# Altium integrated library iotaCore.IntLib: 17 symbols
Pins are listed as number, name and electrical type; pins without a type are passive.

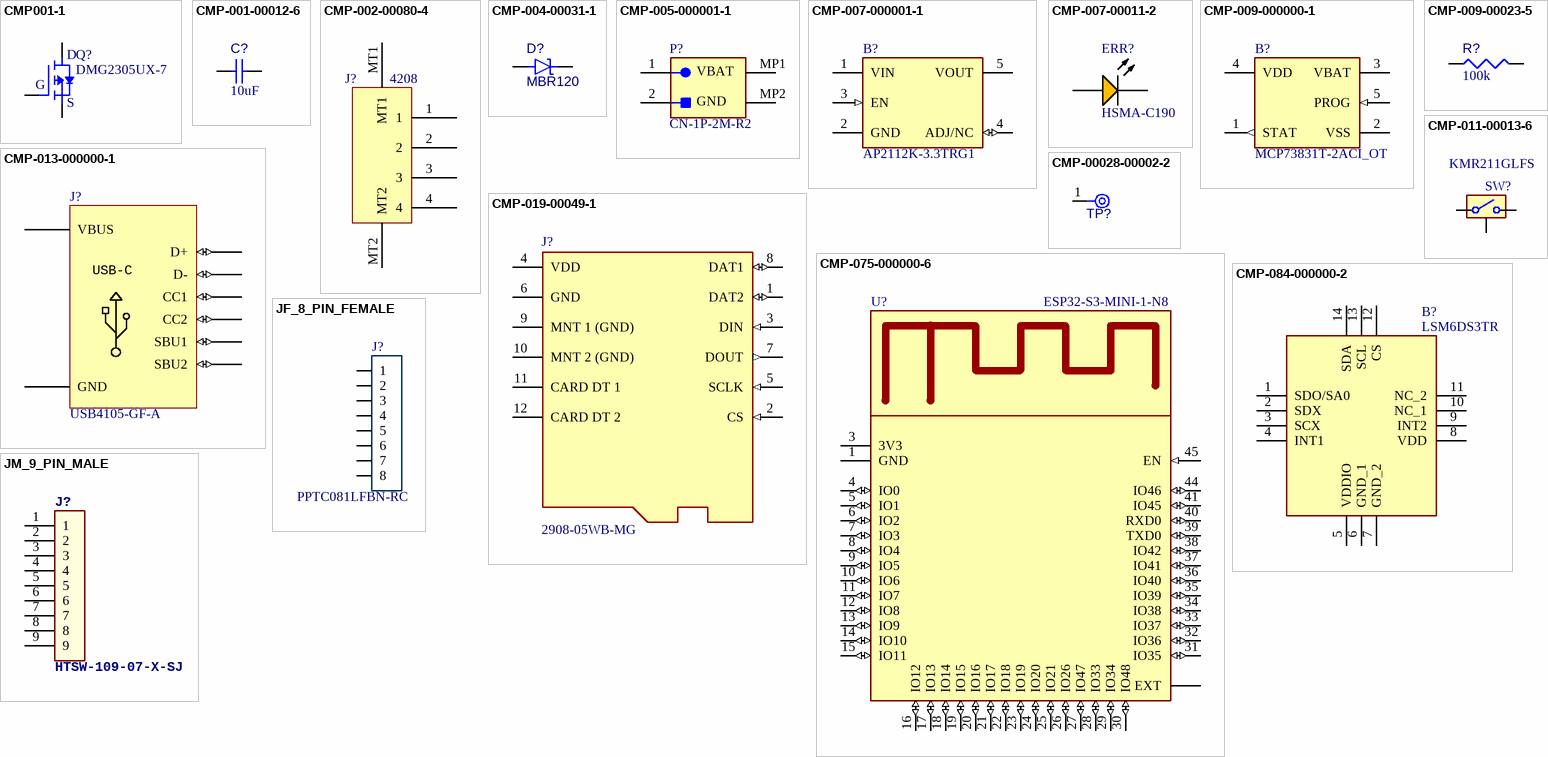
[diagram p0: symbols CMP001-1 to JM_9_PIN_MALE]

## CMP001-1
designator Q?, comment DMG2305UX-7
Power Field-Effect Transistor, 4.2A I(D), 20V, 0.052ohm, 1-Element, P-Channel, Silicon, Metal-oxide Semiconductor FET; Manufacturer: Diodes; Max Operating Temperature: 150°C; RoHS Compliant: Yes; Pins: 3; Manufacturer Part Number: DMG2305UX-7; Component Type: Transistors
footprint FP-SOT23-MFG
pins: 1 G, 2 S, 3 D

## CMP-001-00012-6
designator C?, comment value 10uF  (hidden comment: Capacitor 10 uF +/- 0.25 uF 50 V 0603)
Chip Capacitor, 10 uF, +/- 0.25 uF, 50 V, 0603 (1608 Metric); Manufacturer: KEMET; Manufacturer Part Number: C0603C100C5GACTU; Tolerance: 0.25%; Capacitor Type: Ceramic; Voltage Rating: 50V; Max Operating Temperature: 125°C; RoHS Compliant: True; Mounting Technology: SM; Pins: 2; Case/Package: 0603; Min Operating Temperature: -55°C; Component Type: Capacitors
footprint CAPC1608X87X35NL15T15 (Chip Capacitor, 2-Leads, Body 1.75x0.95mm, IPC Medium Density)
footprint CAPC1608X87X35LL15T15 (Chip Capacitor, 2-Leads, Body 1.75x0.95mm, IPC High Density)
footprint CAPC1608X87X35ML15T15 (Chip Capacitor, 2-Leads, Body 1.75x0.95mm, IPC Low Density)
pins: 1, 2

## CMP-002-00080-4
designator J?, comment 4208
Adafruit Accessories JST SH 4-pin Right Angle Connector (10-pack) - Qwiic Compatible; Manufacturer_Part_Number: 4208; Source: SamacSys.SchLib; Height: 7.05mm; Design Item ID: 4208; Manufacturer_Name: Adafruit; Datasheet Link: https://cdn-shop.adafruit.com/product-files/4390/4390_C13925-001_CCP-W20-04-BK-SMT-R-A.PDF; Component Type: Connectors
footprint 4390
pins: 1, 2, 3, 4, MT1, MT2

## CMP-004-00031-1
designator D?, comment MBR120
Diode; Source: MBR120.SchLib; Design Item ID: MBR120; Component Type: Diodes
footprint ONSC-SOD-123FL-2-498-01_V (SOD, 2-Leads, Body 2.7x1.65mm)
pins: 1 K, 2 A

## CMP-005-000001-1
designator P?, comment CN-1P-2M-R2
Design Item ID: CN-1P-2M-R2; Source: CN-1P-2M-R2.SchLib
footprint JST- S2B-PH-SM4-TB(LF)(SN)-2_V (SMD, 2-Leads, Body 7.9x7.6mm, Pitch 2mm)
pins: 1, 2, MP1, MP2
text: VBAT; GND

## CMP-007-000001-1
designator B?, comment AP2112K-3.3TRG1
600mA 3.3V LDO Regulator Enable SOT23-5 DiodesZetex AP2112K-3.3TRG1, LDO Voltage Regulator, 3.3 V +/-1.5%, 2.5  6 Vin, 5-Pin SOT-23; Manufacturer_Name: Diodes Inc.; Geometry.Height: 1.3mm; Mouser Part Number: 621-AP2112K-3.3TRG1; Source: AP2112K-3.3TRG1.SchLib; Datasheet Link: *; Manufacturer_Part_Number: AP2112K-3.3TRG1; Mouser Price/Stock: https://www.mouser.co.uk/ProductDetail/Diodes-Incorporated/AP2112K-3.3TRG1?qs=x6A8l6qLYDDPYHosCdzh%2FA%3D%3D; Design Item ID: AP2112K-3.3TRG1
footprint SOT95P270X145-5N
pins: 1 VIN, 2 GND, 3 EN (in), 4 ADJ/NC (io), 5 VOUT

## CMP-007-00011-2
designator ERR?, comment HSMA-C190
LED Uni-Color Amber, 60 mW, 20 mA, -40 to 85 degC, 2-Pin SMD, RoHS, Tape and Reel; Manufacturer: Avago; Manufacturer: Broadcom Avago; Manufacturer: Agilent; Forward Current: 20mA; Luminous Intensity: 90mcd; Lens Style: Diffused; Power: 60mW; Nominal Vf: 1.9V; Viewing Angle: 170degrees; Illumination Colour: Orange; Datasheet Version: Sep-10; Mounting Technology: SM; Case/Package: 0603; RoHS Compliant: True; Pins: 2; Packaging: TapeandReel; Colour: Orange; Package Reference: HSMX-C190; Manufacturer URL: http://www.avagotech.com/; Package Quantity: 4000; Min Operating Temperature: -40°C; Datasheet URL: http://docs.avagotech.com/docs/AV02-0112EN; Max Operating Temperature: 85°C; Forward Voltage: 1.9V; Package Description: 2-Pin Surface Mount Device, Body 1.6 x 0.8 mm, Height 0.9 mm; Manufacturer Part Number: HSMA-C190; Component Type: LED
footprint AVAG-HSMX-C190_V (SMD, 2-Leads, Body 1.6x0.8mm, Height 0.9mm)
pins: 1 A, 2 K

## CMP-009-000000-1
designator B?, comment MCP73831T-2ACI_OT
Li-Ion Charge Controller 4.2V SOT23-5; Manufacturer_Name: Microchip; Manufacturer_Part_Number: MCP73831T-2ACI/OT; Geometry.Height: 1.45mm; Design Item ID: MCP73831T-2ACI_OT; Mouser Part Number: 579-MCP73831T-2ACIOT; Datasheet Link: http://ww1.microchip.com/downloads/en/DeviceDoc/20001984g.pdf; Source: MCP73831T-2ACI_OT.SchLib; Mouser Price/Stock: https://www.mouser.co.uk/ProductDetail/Microchip-Technology-Atmel/MCP73831T-2ACI-OT?qs=yUQqVecv4qvbBQBGbHx0Mw%3D%3D
footprint SOT95P270X145-5N
pins: 1 STAT (out), 2 VSS, 3 VBAT, 4 VDD, 5 PROG (in)

## CMP-009-00023-5
designator R?, comment value 100k  (hidden comment: Resistor 100k +/-1% 0603 100 mW)
Chip Resistor, 100 KOhm, +/- 1%, 0.1 W, -55 to 155 degC, 0603 (1608 Metric); Manufacturer: Yageo; Manufacturer Part Number: RC0603FR-07100KL; Manufacturer: Vishay; Manufacturer Part Number: CRCW0603-100KFKEA; Manufacturer Part Number: RC0603FR-13100KL; Manufacturer: Panasonic; Manufacturer Part Number: ERJ-3EKF1003V; Voltage Rating: 50V; Power: 100mW; Max Operating Temperature: 155°C; RoHS Compliant: True; Tolerance: 1%; Pins: 2; Case/Package: 0603; Mounting Technology: SM; Min Operating Temperature: -55°C; Component Type: Resistors
footprint RESC1608X55X25ML10T15 (Chip Resistor, 2-Leads, Body 1.70x0.90mm, IPC Low Density)
footprint RESC1608X55X25NL10T15 (Chip Resistor, 2-Leads, Body 1.70x0.90mm, IPC Medium Density)
footprint RESC1608X55X25LL10T15 (Chip Resistor, 2-Leads, Body 1.70x0.90mm, IPC High Density)
pins: 1, 2
1 alternate drawing of the same symbol

## CMP-011-00013-6
designator SW?, comment KMR211GLFS
Design Item ID: KMR211GLFS; Source: KMR211GLFS.SchLib; Component Type: Switches
footprint FP-KMR211GLFS-MFG
pins: 1,2 1, 3,4 2, 5 3 (power)

## CMP-013-000000-1
designator J?, comment USB4105-GF-A
USB-C 16-Pin Component; Source: USB4105-GF-A.SchLib; Design Item ID: USB4105-GF-A
footprint USB4105-GF-A
pins: A1B12,B1A12,M1,M2,M3,M4 GND, A4B9,B4A9 VBUS, A5 CC1 (io), A6,B6 D+ (io), A7,B7 D- (io), A8 SBU1 (io), B5 CC2 (io), B8 SBU2 (io)
text: USB-C

## CMP-019-00049-1
designator J?, comment 2908-05WB-MG
CONN MICRO SD CARD PUSH-PUSH R/A; Manufacturer: 3M; Manufacturer Part Number: 2908-05WB-MG; Component Type: Memory
footprint FP-2908-05WB-MG-MFG
pins: 1 DAT2 (io), 2 CS (in), 3 DIN (in), 4 VDD, 5 SCLK (in), 6 GND, 7 DOUT (out), 8 DAT1 (io), 9 MNT 1 (GND), 10 MNT 2 (GND), 11 CARD DT 1, 12 CARD DT 2

## CMP-00028-00002-2
designator TP?, comment TPAD6R  (value not drawn)  (no BOM)
0.6mm round; Pins: 1; Component Type: Mechanical
footprint TP06R (Testpoint, round, d=0.6mm)
pins: 1 TP

## CMP-075-000000-6
designator U?, comment ESP32-S3-MINI-1-N8
Bluetooth, WiFi 802.11b/g/n, Bluetooth v5.0 Transceiver Module 2.4GHz PCB Trace Surface Mount; MF: Espressif Systems; Availability: In Stock; Price: None; MP: ESP32-S3-MINI-1-N8; Design Item ID: ESP32-S3-MINI-1-N8; Purchase-URL: https://pricing.snapeda.com/search?q=ESP32-S3-MINI-1-N8&ref=eda; Pin Count: 73; Value: *; Component Type: Standard; Check_prices: https://www.snapeda.com/parts/ESP32-S3-MINI-1-N8/Espressif+Systems/view-part/?ref=eda; Package: None; Source: ESP32-S3-MINI-1-N8.SchLib; SnapEDA_Link: https://www.snapeda.com/parts/ESP32-S3-MINI-1-N8/Espressif+Systems/view-part/?ref=snap; Component Type: Wireless
footprint XCVR_ESP32-S3-MINI-1-N8; pin to pad 0>2+42+43+46+47+48+49+50+51+52+53+54+55+56+57+58+59+60+61+62+63+64+65+61_1+61_2+61_3+61_4+61_5+61_6+61_7+61_8
pins: 0 EXT (power), 1 GND (power), 3 3V3 (power), 4 IO0 (io), 5 IO1 (io), 6 IO2 (io), 7 IO3 (io), 8 IO4 (io), 9 IO5 (io), 10 IO6 (io), 11 IO7 (io), 12 IO8 (io), 13 IO9 (io), 14 IO10 (io), 15 IO11 (io), 16 IO12 (io), 17 IO13 (io), 18 IO14 (io), 19 IO15 (io), 20 IO16 (io), 21 IO17 (io), 22 IO18 (io), 23 IO19 (io), 24 IO20 (io), 25 IO21 (io), 26 IO26 (io), 27 IO47 (io), 28 IO33 (io), 29 IO34 (io), 30 IO48 (io), 31 IO35 (io), 32 IO36 (io), 33 IO37 (io), 34 IO38 (io), 35 IO39 (io), 36 IO40 (io), 37 IO41 (io), 38 IO42 (io), 39 TXD0 (io), 40 RXD0 (io), 41 IO45 (io), 44 IO46 (io), 45 EN (in)

## CMP-084-000000-2
designator B?, comment LSM6DS3TR
DFD PROTECTION & FILTER; Manufacturer_Name: STMicroelectronics; Geometry.Height: 0.86mm; Mouser Part Number: 511-LSM6DS3TR; Design Item ID: LSM6DS3TR; Arrow Part Number: LSM6DS3TR; Manufacturer_Part_Number: LSM6DS3TR; Datasheet Link: https://www.mouser.com/datasheet/2/389/dm00133076-1798402.pdf; Source: LSM6DS3TR.SchLib; Mouser Price/Stock: https://www.mouser.co.uk/ProductDetail/STMicroelectronics/LSM6DS3TR?qs=Ok1pvOkw6%2FrQmhGoCLrQkA%3D%3D; Arrow Price/Stock: https://www.arrow.com/en/products/lsm6ds3tr/stmicroelectronics?region=nac
footprint LSM6DS3TR
pins: 1 SDO/SA0, 2 SDX, 3 SCX, 4 INT1, 5 VDDIO, 6 GND_1, 7 GND_2, 8 VDD, 9 INT2, 10 NC_1, 11 NC_2, 12 CS, 13 SCL, 14 SDA

## JF_8_PIN_FEMALE
designator J?, comment PPTC081LFBN-RC
8 Position Header Connector 0.100" (2.54mm) Through Hole Tin; Digikey Link: https://www.digikey.com/product-detail/en/PPTC081LFBN-RC/S7006-ND/810147/?itemSeq=304982354; MFR Part #: PPTC081LFBN-RC; Type: Extended; LCSC Part#: C27438
footprint 8_PIN_100MIL - Female
pins: 1, 2, 3, 4, 5, 6, 7, 8

## JM_9_PIN_MALE
designator J?, comment HTSW-109-07-X-SJ
2.54mm Black 1x9P Straight,P=2.54mm Pin Headers; MFR PART #: PZ254-1-09-Z-8.5; MFR PN: HTSW-109-07-X-SJ; LCSC PART#: C2894932
footprint JM-9_HTSW-109-07-X-S
pins: 1, 2, 3, 4, 5, 6, 7, 8, 9